# EAGLE library part HDR-100-09_S (library con-molex-kk)
HEADER
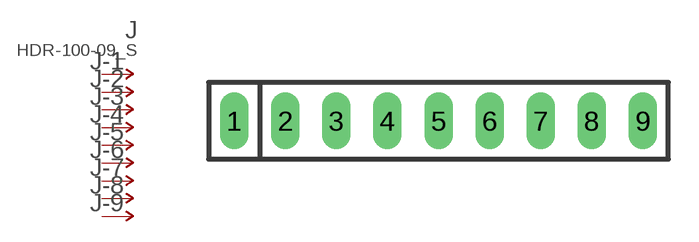
[diagram p153: symbol with the pads of HDR-100-09; footprint HDR-100-09]

Designator prefix J; gates -1=P-NV -2=P-N -3=P-N -4=P-N -5=P-N -6=P-N -7=P-N -8=P-N -9=P-N

## HDR-100-09_S  [HDR-100-09]
1  -1:P  pas
2  -2:P  pas
3  -3:P  pas
4  -4:P  pas
5  -5:P  pas
6  -6:P  pas
7  -7:P  pas
8  -8:P  pas
9  -9:P  pas

## Footprint HDR-100-09 (pad centres in mm)
HEADER - pitch 0.1"
drill 0.914 long: 1 -10.16,0; 2 -7.62,0; 3 -5.08,0; 4 -2.54,0; 5 0,0; 6 2.54,0; 7 5.08,0; 8 7.62,0; 9 10.16,0